# EAGLE library part ILQ615-4 (library ILQ615-4)
Check prices <https://pricing.snapeda.com/parts/ILQ615-4/Vishay%20Semiconductor/view-part?ref=eda>
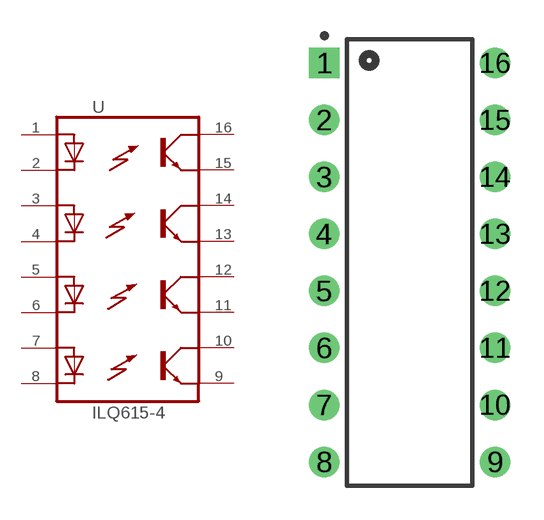
[diagram p0: symbol with the pads of DIP762W51P254L1992H425Q16; footprint DIP762W51P254L1992H425Q16]

Designator prefix U

## ILQ615-4 (Availability: In Stock; Description: Optoisolator Transistor Output 5300Vrms 4 Channel 16-SMD; MF: Vishay Semiconductor; MP: ILQ615-4; Package: DIP-16 Vishay; Price: None)  [DIP762W51P254L1992H425Q16]
1  A1  pas
2  C1  pas
3  A2  pas
4  C2  pas
5  A3  pas
6  C3  pas
7  A4  pas
8  C4  pas
9  E4  pas
10  CO4  pas
11  E3  pas
12  CO3  pas
13  E2  pas
14  CO2  pas
15  E1  pas
16  CO1  pas

## Footprint DIP762W51P254L1992H425Q16 (pad centres in mm)
drill 0.85 square: 1 -3.81,8.89
drill 0.85: 2 -3.81,6.35; 3 -3.81,3.81; 4 -3.81,1.27; 5 -3.81,-1.27; 6 -3.81,-3.81; 7 -3.81,-6.35; 8 -3.81,-8.89; 9 3.81,-8.89; 10 3.81,-6.35; 11 3.81,-3.81; 12 3.81,-1.27; 13 3.81,1.27; 14 3.81,3.81; 15 3.81,6.35; 16 3.81,8.89